# EAGLE library part DS12885 (library rtc)
DS12885 RTC
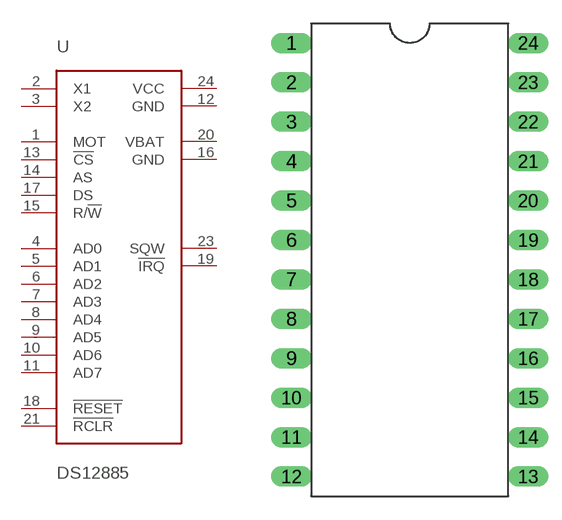
[diagram p0: symbol with the pads of DIP24; footprint DIP24]

Designator prefix -

## DS12885  [DIP24]
1  MOT  in
2  X1  in
3  X2  out
4  AD0
5  AD1
6  AD2
7  AD3
8  AD4
9  AD5
10  AD6
11  AD7
12  GND  pwr
13  !CS!  in
14  AS  in
15  R/!W!  in
16  GND  pwr
17  DS  in
18  !RESET!  in
19  !IRQ!  out
20  VBAT  pwr
21  !RCLR!  in
23  SQW  out
24  VCC  pwr

## Footprint DIP24 (pad centres in mm)
drill 0.8 long: 1 -7.62,13.97; 2 -7.62,11.43; 3 -7.62,8.89; 4 -7.62,6.35; 5 -7.62,3.81; 6 -7.62,1.27; 7 -7.62,-1.27; 8 -7.62,-3.81; 9 -7.62,-6.35; 10 -7.62,-8.89; 11 -7.62,-11.43; 12 -7.62,-13.97; 13 7.62,-13.97; 14 7.62,-11.43; 15 7.62,-8.89; 16 7.62,-6.35; 17 7.62,-3.81; 18 7.62,-1.27; 19 7.62,1.27; 20 7.62,3.81; 21 7.62,6.35; 22 7.62,8.89; 23 7.62,11.43; 24 7.62,13.97